# Altium integrated library ST Video TV Interface Circuit.IntLib: 3 symbols
Pins are listed as number, name and electrical type; pins without a type are passive.

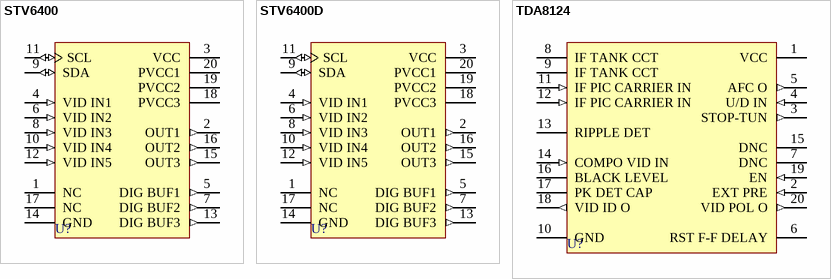
[diagram p0: symbols STV6400 to TDA8124]

## STV6400
designator U?
Double SCART Interface; Published: 24-Aug-2001; LatestRevisionDate: 06-Jun-2005; LatestRevisionNote: Stylized 3D Model Added.; DatasheetVersion: May-1996; PackageVersion: Jun-1998; PackageReference: DIP20; Publisher: Altium Limited; PackageDescription: DIP; 20 Leads; Row Spacing 7.62 mm; Pitch 2.54 mm; Code_JEDEC: MS-015-AE; ComponentLink1Description: Manufacturer Link; ComponentLink1URL: http://www.st.com/
footprint DIP20 (DIP; 20 Leads; Row Spacing 7.62 mm; Pitch 2.54 mm)
3D model DIP20 (DIP; 20 Leads; Row Spacing 7.62 mm; Pitch 2.54 mm)
pins: 1 NC, 2 OUT1 (out), 3 VCC (power), 4 VID IN1 (in), 5 DIG BUF1 (out), 6 VID IN2 (in), 7 DIG BUF2 (out), 8 VID IN3 (in), 9 SDA (io), 10 VID IN4 (in), 11 SCL (io), 12 VID IN5 (in), 13 DIG BUF3 (out), 14 GND (power), 15 OUT3 (out), 16 OUT2 (out), 17 NC, 18 PVCC3 (power), 19 PVCC2 (power), 20 PVCC1 (power)

## STV6400D
designator U?
Double SCART Interface; Published: 24-Aug-2001; LatestRevisionDate: 13-Apr-2006; LatestRevisionNote: IPC-7351 Footprint Added.; DatasheetVersion: May-1996; PackageVersion: Jul-2001; PackageReference: SO20; Publisher: Altium Limited; PackageDescription: 20-Pin Plastic Small Outline Integrated Circuit 1.27 mm Pitch; Code_JEDEC: MS-013-AC; Code_IPC: SOIC127P1030-20; ComponentLink1Description: Manufacturer Link; ComponentLink1URL: http://www.st.com/
footprint SO20_N (SOIC, 20-Leads, Body 12.8x7.5mm, Pitch 1.27mm, IPC Medium Density)
footprint SO20_L (SOIC, 20-Leads, Body 12.8x7.5mm, Pitch 1.27mm, IPC High Density)
footprint SO20_M (SOIC, 20-Leads, Body 12.8x7.5mm, Pitch 1.27mm, IPC Low Density)
3D model SO20 (20-Pin Plastic Small Outline Integrated Circuit 1.27 mm Pitch)
pins: 1 NC, 2 OUT1 (out), 3 VCC (power), 4 VID IN1 (in), 5 DIG BUF1 (out), 6 VID IN2 (in), 7 DIG BUF2 (out), 8 VID IN3 (in), 9 SDA (io), 10 VID IN4 (in), 11 SCL (io), 12 VID IN5 (in), 13 DIG BUF3 (out), 14 GND (power), 15 OUT3 (out), 16 OUT2 (out), 17 NC, 18 PVCC3 (power), 19 PVCC2 (power), 20 PVCC1 (power)

## TDA8124
designator U?
Multistandard Video IF Interface; Note: Do Not Connect (DNC) pins 7 and 15.; Published: 24-Aug-2001; LatestRevisionDate: 06-Jun-2005; LatestRevisionNote: Stylized 3D Model Added.; DatasheetVersion: Oct-1993; PackageVersion: Jun-1998; PackageReference: DIP20; Publisher: Altium Limited; PackageDescription: DIP; 20 Leads; Row Spacing 7.62 mm; Pitch 2.54 mm; Code_JEDEC: MS-015-AE; ComponentLink1Description: Manufacturer Link; ComponentLink1URL: http://www.st.com/
footprint DIP20 (DIP; 20 Leads; Row Spacing 7.62 mm; Pitch 2.54 mm)
3D model DIP20 (DIP; 20 Leads; Row Spacing 7.62 mm; Pitch 2.54 mm)
pins: 1 VCC (power), 2 EXT PRE (in), 3 STOP-TUN (out), 4 U/D IN (in), 5 AFC O (out), 6 RST F-F DELAY, 7 DNC, 8 IF TANK CCT, 9 IF TANK CCT, 10 GND (power), 11 IF PIC CARRIER IN (in), 12 IF PIC CARRIER IN (in), 13 RIPPLE DET, 14 COMPO VID IN (in), 15 DNC, 16 BLACK LEVEL, 17 PK DET CAP, 18 VID ID O (out), 19 EN (in), 20 VID POL O (out)